# EAGLE library part DS1E- (library Panasonic Relay)
DS - 1 Form C - 2 coil latching Data sheet <https://www.panasonic-electric-works.com/eu/download.htm?id=55731> Parameters Max. switching voltage: 220V DC, 250V AC Max. switching current: 3A Operational function: Single side stable, 2 coil latching Contact arrangement: 1 CO Applications Telecommunications Measuring devices Office equipment Busines devices Audio systems Industrial equipment Options Also available as single side stable version. For both versions standard (DS1E-SXX-DCXXX) and high sensitivity types (DS1E-MXX-DCXXX) exist.
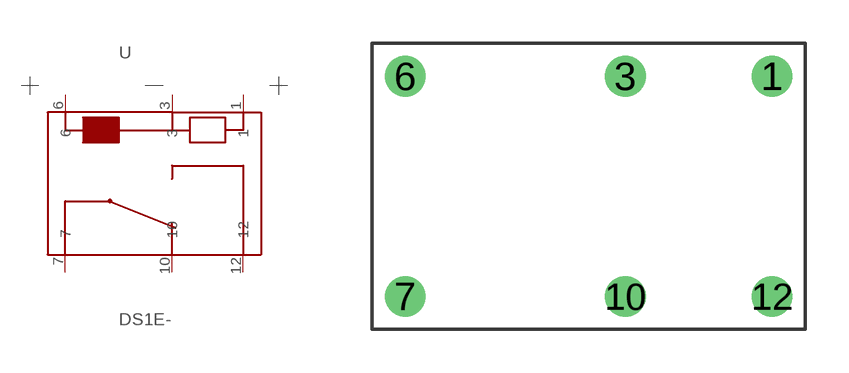
[diagram p73: symbol with the pads of DS_1_FORM_C_2CLT; footprint DS_1_FORM_C_2CLT]

Designator prefix -

## DS1E-ML2-DC1.5V (U_COIL: 1.5V DC), DS1E-ML2-DC12V (U_COIL: 12V DC), DS1E-ML2-DC24V (U_COIL: 24V DC), DS1E-ML2-DC3V (U_COIL: 3V DC), DS1E-ML2-DC48V (U_COIL: 48V DC), DS1E-ML2-DC5V (U_COIL: 5V DC), DS1E-ML2-DC6V (U_COIL: 6V DC), DS1E-ML2-DC9V (U_COIL: 9V DC), DS1E-SL2-DC1.5V (U_COIL: 1.5V DC), DS1E-SL2-DC12V (U_COIL: 12V DC), DS1E-SL2-DC24V (U_COIL: 24V DC), DS1E-SL2-DC3V (U_COIL: 3V DC), DS1E-SL2-DC48V (U_COIL: 48V DC), DS1E-SL2-DC5V (U_COIL: 5V DC), DS1E-SL2-DC6V (U_COIL: 6V DC), DS1E-SL2-DC9V (U_COIL: 9V DC)  [DS_1_FORM_C_2CLT]
1  1
3  3
6  6
7  7
10  10
12  12

## Footprint DS_1_FORM_C_2CLT (pad centres in mm)
drill 0.9: 1 6.35,3.81; 3 1.27,3.81; 6 -6.35,3.81; 7 -6.35,-3.81; 10 1.27,-3.81; 12 6.35,-3.81